# Altium footprint library Quadcopter.PcbLib: 41 footprints (part 3 of 3)
Each footprint in its own frame and in the unit in brackets; x right, y up, seen from the top. Pads: shape width x height; smd on the part's side, far side on the other; paste and mask are expansions set on the pad; w line width, h text height; cw(c..) or ccw(c..) is an arc to the next point about the centre after c.
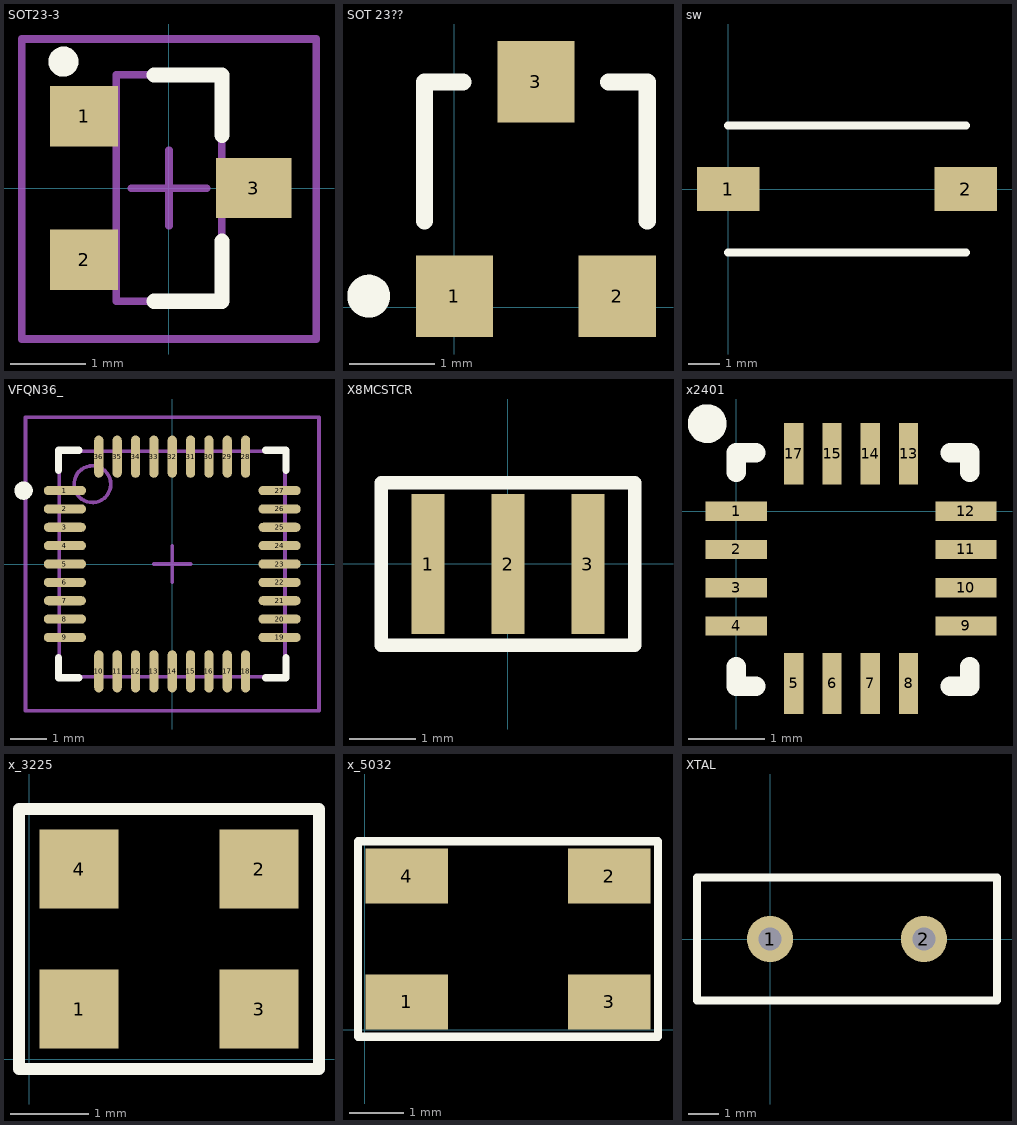
[diagram p2: the footprints below, top view; thin cyan lines are the x and y axes]

## SOT23-3 [mm] "SOT23, 3-Leads, Body 2.9x1.3mm, Pitch 0.95mm, Lead Span 2.3mm - Reverse Pinning, IPC Medium Density"
height 1.1
pads (3):
  rect 0.9x0.8 smd: 1(-1.125,0.95) 2(-1.125,-0.95)
  rect 1x0.8 smd: 3(1.125,0)
Top Overlay:
  circle w0.2: c-1.4,1.675 r0.1
  lines w0.2: -0.2,-1.5 0.7,-1.5 0.7,-0.7 ; -0.2,1.5 0.7,1.5 0.7,0.7
Mechanical 13:
  lines w0.1: -0.7,-1.5 -0.7,1.5 0.7,1.5 0.7,-1.5 -0.7,-1.5
Mechanical 15:
  lines w0.1: -0.5,0 0.5,0 ; 0,-0.5 0,0.5 ; -1.95,-2 -1.95,1.975 1.95,1.975 1.95,-2 -1.95,-2
3D body "User Library-SOT23-3_modified.STEP": height 1.3, standoff 0, extent -1.4,-1.45 1.4,1.45

## SOT 23?? [mm]
pads (3):
  rect 0.9x0.95 smd: 1(0,0.127) 2(1.9,0.127) 3(0.95,2.627)
Top Overlay:
  circle w0.25: c-1,0.127 r0.125
  lines w0.2: -0.35,1.002 -0.35,2.627 0.1,2.627 ; 1.8,2.627 2.25,2.627 2.25,1.002
3D body: height 0.89, standoff 0, extent -0.381,0.508 2.286,2.286

## sw [mm]
pads (2):
  rect 2x1.4 smd: 1(0,0) 2(7.62,0)
Top Overlay:
  lines w0.254: 0,-2.032 7.62,-2.032 ; 0,2.032 7.62,2.032

## VFQN36_ [mm]
pads (36):
  oval 1.15x0.25 smd: 1(-2.925,2) 2(-2.925,1.5) 3(-2.925,1) 4(-2.925,0.5) 5(-2.925,0) 6(-2.925,-0.5) 7(-2.925,-1) 8(-2.925,-1.5) 9(-2.925,-2) 19(2.925,-2) 20(2.925,-1.5) 21(2.925,-1) 22(2.925,-0.5) 23(2.925,0) 24(2.925,0.5) 25(2.925,1) 26(2.925,1.5) 27(2.925,2)
  oval 0.25x1.15 smd: 10(-2,-2.925) 11(-1.5,-2.925) 12(-1,-2.925) 13(-0.5,-2.925) 14(0,-2.925) 15(0.5,-2.925) 16(1,-2.925) 17(1.5,-2.925) 18(2,-2.925) 28(2,2.925) 29(1.5,2.925) 30(1,2.925) 31(0.5,2.925) 32(0,2.925) 33(-0.5,2.925) 34(-1,2.925) 35(-1.5,2.925) 36(-2,2.925)
Top Overlay:
  circle w0.25: c-4.05,2 r0.125
  lines w0.2: -3.1,-2.55 -3.1,-3.1 -2.55,-3.1 ; -3.1,2.55 -3.1,3.1 -2.55,3.1 ; 2.55,-3.1 3.1,-3.1 3.1,-2.55 ; 2.55,3.1 3.1,3.1 3.1,2.55
Mechanical 13:
  circle w0.1: c-2.175,2.175 r0.5
  lines w0.1: -3.075,-3.075 3.075,-3.075 3.075,3.075 -3.075,3.075 -3.075,-3.075
Mechanical 15:
  lines w0.1: -0.5,0 0.5,0 ; 0,-0.5 0,0.5 ; -4,-4 4,-4 4,4 -4,4 -4,-4
3D body: height 1, standoff 0, extent -3.075,-3.075 3.075,3.075

## X8MCSTCR [mm]
pads (3):
  rect 0.5x2.1 smd: 1(-1.2,0) 2(0,0) 3(1.2,0)
Top Overlay:
  lines w0.2: -1.9,-1.219 -1.9,1.219 1.9,1.219 1.9,-1.219 -1.9,-1.219
3D body: height 0.4, standoff 0, extent 1.025,-0.65 1.425,0.65
3D body: height 0.4, standoff 0, extent -0.2,-0.651 0.2,0.651
3D body: height 0.4, standoff 0, extent -1.4,-0.651 -1,0.651
3D body: height 0.7, standoff 0.4, extent -1.575,-0.525 1.575,0.525
3D body: height 0.4, standoff 0, extent -1.75,-0.65 1.75,0.65

## x2401 [mm]
pads (16):
  rect 0.8x0.25 smd: 1(0,0) 2(0,-0.5) 3(0,-1) 4(0,-1.5) 9(3,-1.5) 10(3,-1) 11(3,-0.5) 12(3,0)
  rect 0.25x0.8 smd: 5(0.75,-2.25) 6(1.25,-2.25) 7(1.75,-2.25) 8(2.25,-2.25) 13(2.25,0.75) 14(1.75,0.75) 15(1.25,0.75) 17(0.75,0.75)
Top Overlay:
  circle w0.254: c-0.381,1.143 r0.127
  lines w0.254: 0,-2.032 0,-2.286 0.254,-2.286 ; 0,0.508 0,0.762 0.254,0.762 ; 2.794,-2.286 3.048,-2.286 3.048,-2.032 ; 2.794,0.762 3.048,0.762 3.048,0.508

## x_3225 [mm]
pads (4):
  rect 1x1 smd: 1(0.635,0.635) 2(2.921,2.413) 3(2.921,0.635) 4(0.635,2.413)
Top Overlay:
  lines w0.152: -0.127,-0.127 -0.127,3.175 3.683,3.175 3.683,-0.127 -0.127,-0.127
3D body: height 0.76, standoff 0, extent 0.033,0.033 3.523,3.015

## x_5032 [mm]
pads (4):
  rect 1.5x1 smd: 1(0.762,0.508) 2(4.445,2.794) 3(4.445,0.508) 4(0.762,2.794)
Top Overlay:
  lines w0.152: -0.127,-0.127 5.334,-0.127 5.334,3.429 -0.127,3.429 -0.127,-0.127

## XTAL [mil]
pads (2):
  round 60 hole 30: 1(0,0) 2(200,0)
Top Overlay:
  lines w10: -95,-80 295,-80 295,80 -95,80 -95,-80